# EAGLE library part E01-ML01DP5 (library ebyte-radio)
EBYTE E01-ML01DP5 radio module Datasheet and info: http://www.ebyte.com/en/product-view-news.aspx?id=109
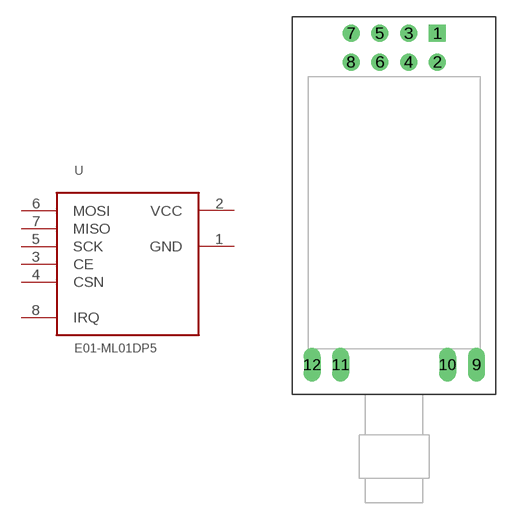
[diagram p3: symbol with the pads of E01-ML01DP5/E01-2G4M27D; footprint E01-ML01DP5/E01-2G4M27D]

Designator prefix -

## E01-ML01DP5  [E01-ML01DP5/E01-2G4M27D]
1  GND  pwr
2  VCC  pwr
3  CE  in
4  CSN  in
5  SCK  in
6  MOSI  in
7  MISO  out
8  IRQ  out

## Footprint E01-ML01DP5/E01-2G4M27D (pad centres in mm)
EBYTE E01-ML01DP5 radio module Datasheet and info: http://www.ebyte.com/en/product-view-news.aspx?id=109 OR EBYTE E01-2G4M27D radio module Datasheet and info http://www.ebyte.com/en/product-view-news.aspx?id=450
drill 1 square: 1 3.81,15.24
drill 1: 2 3.81,12.7; 3 1.27,15.24; 4 1.27,12.7; 5 -1.27,15.24; 6 -1.27,12.7; 7 -3.81,15.24; 8 -3.81,12.7
drill 1 long: 9 7.27,-14.1; 10 4.73,-14.1; 11 -4.73,-14.1; 12 -7.27,-14.1